# Altium footprint library RESC6432X65N.PcbLib: 1 footprints
Each footprint in its own frame and in the unit in brackets; x right, y up, seen from the top. Pads: shape width x height; smd on the part's side, far side on the other; paste and mask are expansions set on the pad; w line width, h text height; cw(c..) or ccw(c..) is an arc to the next point about the centre after c.
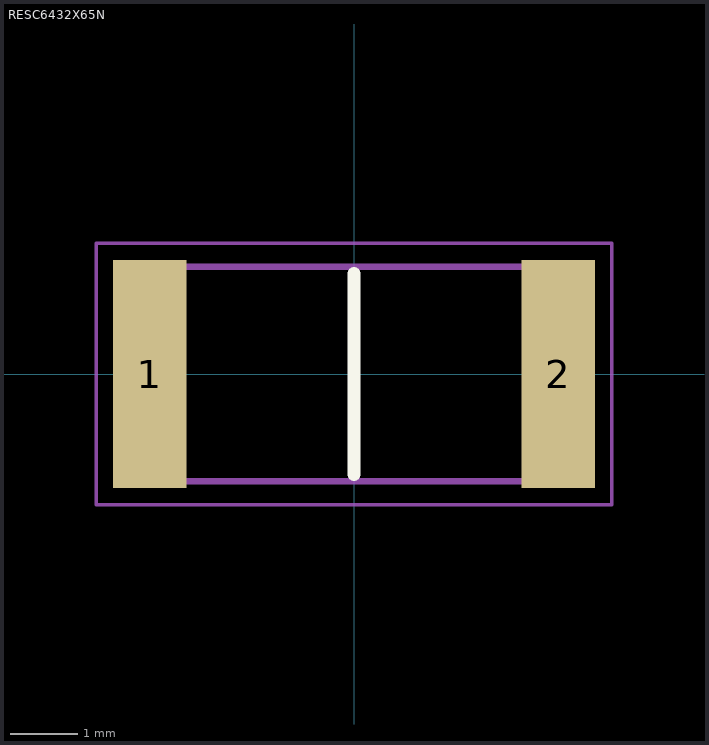
[diagram p0: the footprint, top view; thin cyan lines are the x and y axes]

## RESC6432X65N [mm]
pads (2):
  rect 1.1x3.4 smd: 1(-3.05,0) 2(3.05,0)
Top Overlay:
  lines w0.2: 0,-1.5 0,1.5
Mechanical 15:
  lines w0.1: -3.175,-1.6 3.175,-1.6 3.175,1.6 -3.175,1.6 -3.175,-1.6
Mechanical 20:
  lines w0.05: -3.85,-1.95 3.85,-1.95 3.85,1.95 -3.85,1.95 -3.85,-1.95